# Altium footprint library pcb_lib.PcbLib: 2 footprints
Each footprint in its own frame and in the unit in brackets; x right, y up, seen from the top. Pads: shape width x height; smd on the part's side, far side on the other; paste and mask are expansions set on the pad; w line width, h text height; cw(c..) or ccw(c..) is an arc to the next point about the centre after c.
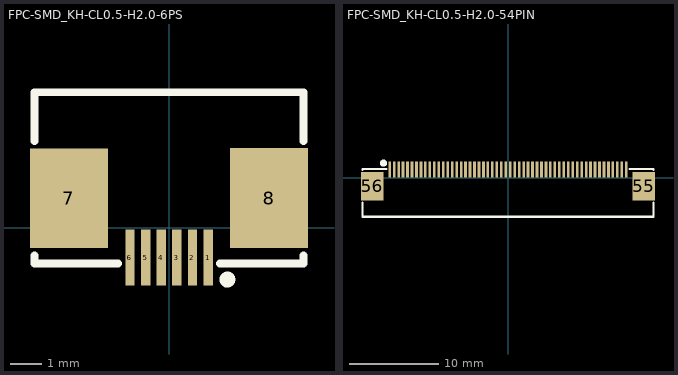
[diagram p0: the footprints below, top view; thin cyan lines are the x and y axes]

## FPC-SMD_KH-CL0.5-H2.0-6PS [mm]
pads (8):
  rect 0.3x1.8 smd: 1(1.25,-0.95) 2(0.75,-0.95) 3(0.25,-0.95) 4(-0.25,-0.95) 5(-0.75,-0.95) 6(-1.25,-0.95)
  rect 2.5x3.2 smd: 7(-3.2,0.95) 8(3.2,0.95)
Top Overlay:
  circle w0.254: c1.867,-1.651 r0.127
  lines w0.254: -4.3,-0.881 -4.3,-1.143 -1.631,-1.143 ; -4.3,2.781 -4.3,4.342 4.3,4.342 4.3,2.781 ; 1.631,-1.143 4.3,-1.143 4.3,-0.881

## FPC-SMD_KH-CL0.5-H2.0-54PIN [mm]
pads (56):
  rect 0.3x1.8 smd: 1(-13.25,0.95) 2(-12.75,0.95) 3(-12.25,0.95) 4(-11.75,0.95) 5(-11.25,0.95) 6(-10.75,0.95) 7(-10.25,0.95) 8(-9.75,0.95) 9(-9.25,0.95) 10(-8.75,0.95) 11(-8.25,0.95) 12(-7.75,0.95) 13(-7.25,0.95) 14(-6.75,0.95) 15(-6.25,0.95) 16(-5.75,0.95) 17(-5.25,0.95) 18(-4.75,0.95) 19(-4.25,0.95) 20(-3.75,0.95) 21(-3.25,0.95) 22(-2.75,0.95) 23(-2.25,0.95) 24(-1.75,0.95) 25(-1.25,0.95) 26(-0.75,0.95) 27(-0.25,0.95) 28(0.25,0.95) 29(0.75,0.95) 30(1.25,0.95) 31(1.75,0.95) 32(2.25,0.95) 33(2.75,0.95) 34(3.25,0.95) 35(3.75,0.95) 36(4.25,0.95) 37(4.75,0.95) 38(5.25,0.95) 39(5.75,0.95) 40(6.25,0.95) 41(6.75,0.95) 42(7.25,0.95) 43(7.75,0.95) 44(8.25,0.95) 45(8.75,0.95) 46(9.25,0.95) 47(9.75,0.95) 48(10.25,0.95) 49(10.75,0.95) 50(11.25,0.95) 51(11.75,0.95) 52(12.25,0.95) 53(12.75,0.95) 54(13.25,0.95)
  rect 2.5x3.2 smd: 55(15.2,-0.95) 56(-15.2,-0.95)
Top Overlay:
  circle w0.4: c-13.954,1.651 r0.2
  lines w0.254: -16.3,-2.781 -16.3,-4.35 16.3,-4.35 16.3,-2.781 ; -16.3,0.881 -16.3,1 -13.631,1 ; 13.631,1 16,1 16.3,1 16.3,0.881